# Altium integrated library Integrated_Library2.IntLib: 1 symbol
Pins are listed as number, name and electrical type; pins without a type are passive.

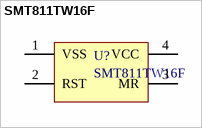
[diagram p0: symbol SMT811TW16F]

## SMT811TW16F
designator U?
Reset Circuit, 3.08V, Push Pull Inverted RST
footprint SOT143 (SOT-143; 4 Leads; Body 3 x 2.6 mm, inc. leads (LxW max))
pins: 1 VSS, 2 RST, 3 MR, 4 VCC